# Altium footprint library Cnverter.PcbLib: 105 footprints (part 3 of 7)
Each footprint in its own frame and in the unit in brackets; x right, y up, seen from the top. Pads: shape width x height; smd on the part's side, far side on the other; paste and mask are expansions set on the pad; w line width, h text height; cw(c..) or ccw(c..) is an arc to the next point about the centre after c.
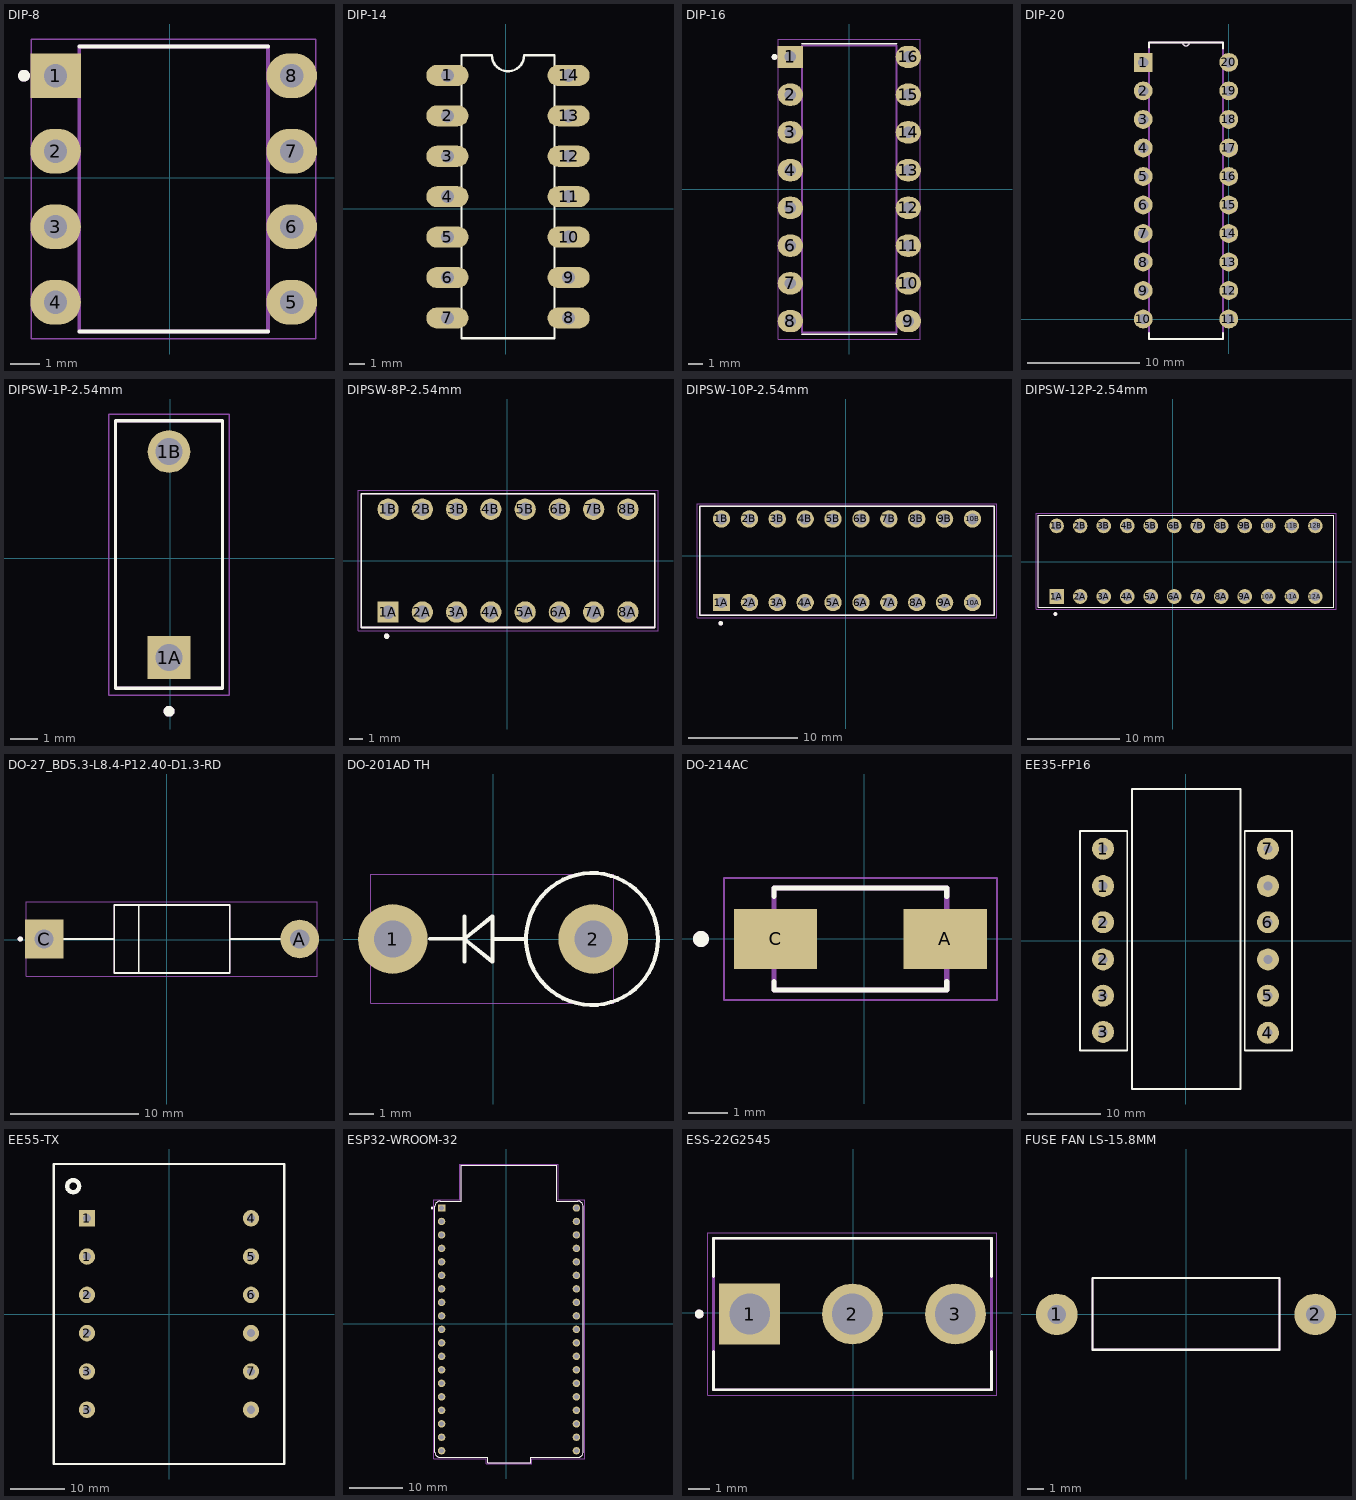
[diagram p2: the footprints below, top view; thin cyan lines are the x and y axes]

## DIP-8 [mm]
pads (8):
  rect 1.7x1.5 hole 0.78: 1(-3.843,3.429)
  oval 1.7x1.5 hole 0.78: 2(-3.843,0.889) 3(-3.843,-1.651) 4(-3.843,-4.191) 5(4.097,-4.191) 6(4.097,-1.651) 7(4.097,0.889) 8(4.097,3.429)
Top Overlay:
  circle w0.2: c-4.908,3.429 r0.1
  lines w0.127: -3.048,-5.176 3.302,-5.176 ; -3.048,4.414 3.302,4.414
Top Assembly:
  circle w0.2: c-4.908,3.429 r0.1
  lines w0.127: -3.048,-5.176 -3.048,4.414 3.302,4.414 3.302,-5.176 -3.048,-5.176
Top Courtyard:
  lines w0.05: -4.658,-5.426 -4.658,4.664 4.912,4.664 4.912,-5.426 -4.658,-5.426
3D body "step_temp.STEP": height 5.08, standoff -3, extent -4.026,-5.176 4.28,4.414

## DIP-14 [mil]
pads (14):
  oval 104x52 hole 32: 1(-144.76,329.66) 2(-144.76,229.66) 3(-144.76,129.66) 4(-144.76,29.66) 5(-144.76,-70.34) 6(-144.76,-170.34) 7(-144.76,-270.34) 8(155.24,-270.34) 9(155.24,-170.34) 10(155.24,-70.34) 11(155.24,29.66) 12(155.24,129.66) 13(155.24,229.66) 14(155.24,329.66)
Top Overlay:
  lines w6: -109.76,-320.34 120.24,-320.34 120.24,379.66 45.24,379.66 cw(c5.24,379.66) -34.76,379.66 -109.76,379.66 -109.76,-320.34
3D body "PDIP14_7P11X19P68_INR.step": height 217.09, standoff -100, extent -157.95,-355.42 170.04,419.54

## DIP-16 [mm]
pads (16):
  rect 1.7x1.5 hole 0.78 mask+0.102: 1(-3.97,8.89)
  oval 1.7x1.5 hole 0.78 mask+0.102: 2(-3.97,6.35) 3(-3.97,3.81) 4(-3.97,1.27) 5(-3.97,-1.27) 6(-3.97,-3.81) 7(-3.97,-6.35) 8(-3.97,-8.89) 9(3.97,-8.89) 10(3.97,-6.35) 11(3.97,-3.81) 12(3.97,-1.27) 13(3.97,1.27) 14(3.97,3.81) 15(3.97,6.35) 16(3.97,8.89)
Top Overlay:
  circle w0.2: c-5.035,8.89 r0.1
  lines w0.127: -3.175,-9.775 3.175,-9.775 ; -3.175,9.775 3.175,9.775
Top Assembly:
  circle w0.2: c-5.035,8.89 r0.1
  lines w0.127: -3.175,-9.653 -3.175,9.653 3.175,9.653 3.175,-9.653 -3.175,-9.653
Top Courtyard:
  lines w0.05: -4.785,-10.095 -4.785,10.095 4.785,10.095 4.785,-10.095 -4.785,-10.095
3D body "step_temp.STEP": height 5.08, standoff -3, extent -4.153,-9.653 4.153,9.653

## DIP-20 [mil]
pads (20):
  rect 66x66 hole 35.43: 1(-300,900)
  round 66 hole 35.43: 2(-300,800) 3(-300,700) 4(-300,600) 5(-300,500) 6(-300,400) 7(-300,300) 8(-300,200) 9(-300,100) 10(-300,0) 11(0,0) 12(0,100) 13(0,200) 14(0,300) 15(0,400) 16(0,500) 17(0,600) 18(0,700) 19(0,800) 20(0,900)
Top Overlay:
  lines w0: -162,970 ccw(c-150,970) -138,970
  lines w6: -280,-48 -280,-70 -20,-70 -20,-48 ; -280,952 -280,970 -162,970 -138,970 -20,970 -20,948
Top Assembly:
  lines w0: -162,970 ccw(c-150,970) -138,970
  lines w6: -322,-22 -322,22 -280,22 -280,-22 -322,-22 ; -322,78 -322,122 -280,122 -280,78 -322,78 ; -322,178 -322,222 -280,222 -280,178 -322,178 ; -322,278 -322,322 -280,322 -280,278 -322,278 ; -322,378 -322,422 -280,422 -280,378 -322,378 ; -322,478 -322,522 -280,522 -280,478 -322,478 ; -322,578 -322,622 -280,622 -280,578 -322,578 ; -322,678 -322,722 -280,722 -280,678 -322,678 ; -322,778 -322,822 -280,822 -280,778 -322,778 ; -322,878 -322,922 -280,922 -280,878 -322,878 ; -280,-70 -20,-70 -20,970 -138,970 -162,970 -280,970 -280,-70 ; -20,-22 -20,22 22,22 22,-22 -20,-22 ; -20,78 -20,122 22,122 22,78 -20,78 ; -20,178 -20,222 22,222 22,178 -20,178 ; -20,278 -20,322 22,322 22,278 -20,278 ; -20,378 -20,422 22,422 22,378 -20,378 ; -20,478 -20,522 22,522 22,478 -20,478 ; -20,578 -20,622 22,622 22,578 -20,578 ; -20,678 -20,722 22,722 22,678 -20,678 ; -20,778 -20,822 22,822 22,778 -20,778 ; -20,878 -20,922 22,922 22,878 -20,878
3D body "step_temp.STEP": height 200, standoff -140, extent -318.5,-61.5 18.5,965

## DIPSW-1P-2.54mm [mm]
pads (2):
  rect 1.58x1.58 hole 1: 1A(-0.043,-3.666)
  round 1.58 hole 1: 1B(-0.043,3.954)
Top Overlay:
  circle w0.2: c-0.043,-5.656 r0.1
  lines w0.127: -2.023,-4.806 1.937,-4.806 1.937,5.094 -2.023,5.094 -2.023,-4.806
Top Assembly:
  circle w0.2: c-0.043,-5.656 r0.1
  lines w0.127: -2.023,-4.806 1.937,-4.806 1.937,5.094 -2.023,5.094 -2.023,-4.806
Top Courtyard:
  lines w0.05: -2.273,-5.056 2.187,-5.056 2.187,5.344 -2.273,5.344 -2.273,-5.056
3D body "step_temp.STEP": height 6.68, standoff -2.88, extent -2.023,-4.809 1.937,5.091

## DIPSW-8P-2.54mm [mm]
pads (16):
  rect 1.58x1.58 / inner round 1.58 / far side rect 1.58x1.58 hole 1: 1A(-8.822,-3.808)
  round 1.58 hole 1: 1B(-8.822,3.812) 2A(-6.282,-3.808) 2B(-6.282,3.812) 3A(-3.742,-3.808) 3B(-3.742,3.812) 4A(-1.202,-3.808) 4B(-1.202,3.812) 5A(1.338,-3.808) 5B(1.338,3.812) 6A(3.878,-3.808) 6B(3.878,3.812) 7A(6.418,-3.808) 7B(6.418,3.812) 8A(8.958,-3.808) 8B(8.958,3.812)
Top Overlay:
  circle w0.2: c-8.932,-5.598 r0.1
  lines w0.127: -10.802,-4.948 10.938,-4.948 10.938,4.952 -10.802,4.952 -10.802,-4.948
Top Assembly:
  circle w0.2: c-8.932,-5.598 r0.1
  lines w0.127: -10.802,-4.948 10.938,-4.948 10.938,4.952 -10.802,4.952 -10.802,-4.948
Top Courtyard:
  lines w0.05: -11.052,-5.198 11.188,-5.198 11.188,5.202 -11.052,5.202 -11.052,-5.198
3D body "step_temp.STEP": height 6.68, standoff -3.68, extent -10.755,-4.852 10.985,5.048

## DIPSW-10P-2.54mm [mm]
pads (20):
  rect 1.58x1.58 hole 1: 1A(-11.338,-4.244)
  round 1.58 hole 1: 1B(-11.338,3.376) 2A(-8.798,-4.244) 2B(-8.798,3.376) 3A(-6.258,-4.244) 3B(-6.258,3.376) 4A(-3.718,-4.244) 4B(-3.718,3.376) 5A(-1.178,-4.244) 5B(-1.178,3.376) 6A(1.362,-4.244) 6B(1.362,3.376) 7A(3.902,-4.244) 7B(3.902,3.376) 8A(6.442,-4.244) 8B(6.442,3.376) 9A(8.982,-4.244) 9B(8.982,3.376) 10A(11.522,-4.244) 10B(11.522,3.376)
Top Overlay:
  circle w0.2: c-11.408,-6.134 r0.1
  lines w0.127: -13.318,-5.384 -13.318,4.516 13.502,4.516 13.502,-5.384 -13.318,-5.384
Top Assembly:
  circle w0.2: c-11.408,-6.134 r0.1
  lines w0.127: -13.318,-5.384 -13.318,4.516 13.502,4.516 13.502,-5.384 -13.318,-5.384
Top Courtyard:
  lines w0.05: -13.568,-5.634 -13.568,4.766 13.752,4.766 13.752,-5.634 -13.568,-5.634
3D body "step_temp.STEP": height 5.18, standoff -4.38, extent -13.318,-5.387 13.502,4.513

## DIPSW-12P-2.54mm [mm]
pads (24):
  rect 1.58x1.58 / inner round 1.58 / far side rect 1.58x1.58 hole 1 mask+0.102: 1A(-12.534,-3.734)
  round 1.58 hole 1 mask+0.102: 1B(-12.534,3.886) 2A(-9.994,-3.734) 2B(-9.994,3.886) 3A(-7.454,-3.734) 3B(-7.454,3.886) 4A(-4.914,-3.734) 4B(-4.914,3.886) 5A(-2.374,-3.734) 5B(-2.374,3.886) 6A(0.166,-3.734) 6B(0.166,3.886) 7A(2.706,-3.734) 7B(2.706,3.886) 8A(5.246,-3.734) 8B(5.246,3.886) 9A(7.786,-3.734) 9B(7.786,3.886) 10A(10.326,-3.734) 10B(10.326,3.886) 11A(12.866,-3.734) 11B(12.866,3.886) 12A(15.406,-3.734) 12B(15.406,3.886)
Top Overlay:
  circle w0.2: c-12.664,-5.624 r0.1
  lines w0.127: -14.514,-4.874 -14.514,5.026 17.386,5.026 17.386,-4.874 -14.514,-4.874
Top Assembly:
  circle w0.2: c-12.664,-5.624 r0.1
  lines w0.127: -14.514,-4.874 -14.514,5.026 17.386,5.026 17.386,-4.874 -14.514,-4.874
Top Courtyard:
  lines w0.05: -14.764,-5.124 -14.764,5.276 17.636,5.276 17.636,-5.124 -14.764,-5.124
3D body "step_temp.STEP": height 5.18, standoff -4.38, extent -14.514,-4.877 17.386,5.023

## DO-27_BD5.3-L8.4-P12.40-D1.3-RD [mm]
pads (2):
  round 3 hole 1.5 mask+0.102: A(10.341,0.059)
  rect 3x3 hole 1.5 mask+0.102: C(-9.559,0.059)
Top Overlay:
  circle w0.2: c-11.409,0.059 r0.1
  lines w0.127: -8.079,0.059 -4.109,0.059 ; -2.191,-2.507 -2.191,2.647 ; 8.861,0.059 4.891,0.059 ; -4.109,0.059 -4.109,2.709 4.891,2.709 4.891,0.059 ; -4.109,0.059 -4.109,-2.591 4.891,-2.591 4.891,0.059
Top Assembly:
  circle w0.2: c-11.409,0.059 r0.1
  lines w0.127: -9.559,0.059 -4.109,0.059 ; 10.341,0.059 4.891,0.059 ; -4.109,0.059 -4.109,2.709 4.891,2.709 4.891,0.059 ; -4.109,0.059 -4.109,-2.591 4.891,-2.591 4.891,0.059
Top Courtyard:
  lines w0.05: -10.934,-2.841 -10.934,2.959 11.716,2.959 11.716,-2.841 -10.934,-2.841
3D body "1N5408GH.STEP": height 5.6, standoff -12.65, extent -10.191,-2.617 10.959,2.959

## DO-201AD TH [mm] "DO-201AD TH"
pads (2):
  round 2.8 hole 1.5: 1(-4.025,0) 2(4.025,0)
Top Overlay:
  circle w0.16: c3.975,0 r2.65
  lines w0.16: -2.525,0.01 -1.155,0.01 ; -1.155,-0.9 -1.155,0 ; -1.155,0.9 -1.155,0 ; -0.025,-0.01 -0.025,0.91 -1.155,0 ; -0.025,0 1.314,0 ; -0.025,0.01 -0.025,-0.91 -1.155,0
Top Courtyard:
  lines w0.05: -4.905,-2.575 4.85,-2.575 4.85,2.6 -4.905,2.6 -4.905,-2.575
3D body: height 10, standoff 8.5, extent 1.499,-2.476 6.501,2.526
3D body: height 13.6, standoff 12.4, extent -4,-0.6 4,0.6
3D body: height 13, standoff -2, extent -4.625,-0.6 -3.425,0.6
3D body: height 13, standoff 7, extent 3.425,-0.6 4.625,0.6
3D body: height 11.5, standoff 0.5, extent 1.5,-2.475 6.5,2.525
3D body: height 4, standoff -2, extent 3.425,-0.6 4.625,0.6
3D body: height 13.6, standoff 12.4, extent -4.65,-0.575 -3.45,0.625
3D body: height 13.6, standoff 12.4, extent 3.425,-0.6 4.625,0.6

## DO-214AC [mm]
pads (2):
  rect 2.09x1.5 smd: A(2.032,0) C(-2.228,0)
Top Overlay:
  circle w0.2: c-4.098,0 r0.1
  lines w0.127: -2.263,-1.07 -2.263,-1.28 2.067,-1.28 2.067,-1.07 ; -2.263,1.07 -2.263,1.28 2.067,1.28 2.067,1.07
Top Assembly:
  circle w0.2: c-4.098,0 r0.1
  lines w0.127: -2.263,-1.28 2.067,-1.28 2.067,1.28 -2.263,1.28 -2.263,-1.28
Top Courtyard:
  lines w0.05: -3.523,-1.53 3.327,-1.53 3.327,1.53 -3.523,1.53 -3.523,-1.53
3D body "step_temp.STEP": height 1.43, standoff 0, extent -1.898,-0.9 1.702,0.9

## EE35-FP16 [mm]
pads (12):
  round 3 hole 1.2 paste+0.102 mask+0.102: 1(-11.26,7.493) 1(-11.26,12.573) 2(-11.26,-2.54) 2(-11.26,2.54) 3(-11.26,-12.446) 3(-11.26,-7.493) 4(11.26,-12.573) 5(11.26,-7.493) 6(11.26,2.54) 7(11.26,12.573) ""(11.26,-2.54) ""(11.26,7.493)
Top Overlay:
  lines w0.254: -14.434,-14.986 -14.434,15 -7.957,15 -7.957,-14.986 -14.434,-14.986 ; -7.302,-20.25 -7.302,20.75 7.5,20.75 7.5,-20.25 -7.302,-20.25 ; 8.089,-14.986 8.089,14.986 14.565,14.986 14.566,-14.986 8.089,-14.986

## EE55-TX [mm]
pads (12):
  round 3 hole 1.5 paste+0 mask+0.051: 1(-15,10.5) 2(-15,-3.5) 2(-15,3.5) 3(-15,-17.5) 3(-15,-10.5) 4(15,17.5) 5(15,10.5) 6(15,3.5) 7(15,-10.5) ""(15,-17.5) ""(15,-3.5)
  rect 3x3 hole 1.5 paste+0 mask+0.051: 1(-15,17.5)
Top Overlay:
  circle w0.8: c-17.526,23.368 r1.092
  lines w0.4: -21.082,-27.432 21.082,-27.432 21.082,27.432 -21.082,27.432 -21.082,-27.432
3D body "E55-21_ferrite-transformer.step": height 56, standoff -3, extent -21.007,-27.5 21.007,27.5

## ESP32-WROOM-32 [mm]
pads (38):
  rect 1.408x1.408 hole 0.9: J2_1(-12.192,21.819)
  round 1.408 hole 0.9: J2_2(-12.192,19.279) J2_3(-12.192,16.739) J2_4(-12.192,14.199) J2_5(-12.192,11.659) J2_6(-12.192,9.119) J2_7(-12.192,6.579) J2_8(-12.192,4.039) J2_9(-12.192,1.499) J2_10(-12.192,-1.041) J2_11(-12.192,-3.581) J2_12(-12.192,-6.121) J2_13(-12.192,-8.661) J2_14(-12.192,-11.201) J2_15(-12.192,-13.741) J2_16(-12.192,-16.281) J2_17(-12.192,-18.821) J2_18(-12.192,-21.361) J2_19(-12.192,-23.901) J3_1(13.208,21.819) J3_2(13.208,19.279) J3_3(13.208,16.739) J3_4(13.208,14.199) J3_5(13.208,11.659) J3_6(13.208,9.119) J3_7(13.208,6.579) J3_8(13.208,4.039) J3_9(13.208,1.499) J3_10(13.208,-1.041) J3_11(13.208,-3.581) J3_12(13.208,-6.121) J3_13(13.208,-8.661) J3_14(13.208,-11.201) J3_15(13.208,-13.741) J3_16(13.208,-16.281) J3_17(13.208,-18.821) J3_18(13.208,-21.361) J3_19(13.208,-23.901)
Top Overlay:
  circle w0.2: c-13.992,21.819 r0.1
  lines w0.127: -13.462,-24.146 ccw(c-12.462,-24.146) -12.462,-25.146 -3.542,-25.146 -3.542,-26.146 4.558,-26.146 4.558,-25.146 13.478,-25.146 ccw(c13.478,-24.146) 14.478,-24.146 14.478,22.114 ccw(c13.478,22.114) 13.478,23.114 9.508,23.114 9.508,29.854 -8.492,29.854 -8.492,23.114 -12.462,23.114 ccw(c-12.462,22.114) -13.462,22.114 -13.462,-24.146
Top Assembly:
  circle w0.2: c-13.992,21.819 r0.1
  lines w0.127: -13.462,-24.146 ccw(c-12.462,-24.146) -12.462,-25.146 -3.542,-25.146 -3.542,-26.146 4.558,-26.146 4.558,-25.146 13.478,-25.146 ccw(c13.478,-24.146) 14.478,-24.146 14.478,22.114 ccw(c13.478,22.114) 13.478,23.114 9.508,23.114 9.508,29.854 -8.492,29.854 -8.492,23.114 -12.462,23.114 ccw(c-12.462,22.114) -13.462,22.114 -13.462,-24.146
Top Courtyard:
  lines w0.05: -13.712,-25.396 -3.792,-25.396 -3.792,-26.396 4.808,-26.396 4.808,-25.396 14.728,-25.396 14.728,23.364 9.758,23.364 9.758,30.104 -8.742,30.104 -8.742,23.364 -13.712,23.364 -13.712,-25.396
3D body "step_temp.STEP": height 6.69, standoff -6, extent -13.462,-25.816 14.478,29.284

## ESS-22G2545 [mm]
pads (3):
  rect 2.775x2.775 hole 1.85: 1(-4.728,-0.059)
  round 2.775 hole 1.85: 2(-0.028,-0.059) 3(4.672,-0.059)
Top Overlay:
  circle w0.2: c-7.028,-0.059 r0.1
  lines w0.127: -6.378,-1.766 -6.378,-3.513 6.322,-3.513 6.322,-1.766 ; -6.378,1.649 -6.378,3.396 6.322,3.396 6.322,1.649
Top Assembly:
  circle w0.2: c-7.028,-0.059 r0.1
  lines w0.127: -6.378,-3.513 -6.378,3.396 6.322,3.396 6.322,-3.513 -6.378,-3.513
Top Courtyard:
  lines w0.05: -6.628,-3.763 6.572,-3.763 6.572,3.646 -6.628,3.646 -6.628,-3.763

## FUSE FAN LS-15.8MM [mm] "31TD2A250V"
pads (2):
  round 2.54 hole 1.143 mask+0.102: 1(-7.9,0) 2(7.9,0)
Top Overlay:
  lines w0.15: -5.715,-2.175 -5.715,2.225 5.715,2.225 5.715,-2.159
  lines w0.151: -5.715,-2.159 5.715,-2.159
Top Courtyard:
  lines w0.1: -5.715,-2.159 -5.715,2.2 5.715,2.2 5.715,-2.159
  lines w0.151: -5.715,-2.159 5.715,-2.159
3D body: height 2.95, standoff 2.05, extent 6,-0.45 8,0.45
3D body: height 2.95, standoff 2.05, extent 7.45,-0.45 8.35,0.45
3D body: height 4.5, standoff 0.5, extent -5.7,-2 -3.2,2
3D body: height 4.5, standoff 0.5, extent 3.2,-2 5.7,2
3D body: height 2.95, standoff 2.05, extent -8.35,-0.447 -7.45,0.447
3D body: height 2.95, standoff 2.05, extent -7.9,-0.449 -5.9,0.449
3D body: height 4.2, standoff 0.8, extent -3,-1.7 3,1.7
3D body: height 2.5, standoff 2.5, extent -8.346,-0.449 -7.45,0.449
3D body: height 0, standoff 0, extent 7.9,0 7.9,0